# Altium schematic symbol library ADM3251EARWZ.Schlib: 1 symbol
Pins are listed as number, name and electrical type; pins without a type are passive.

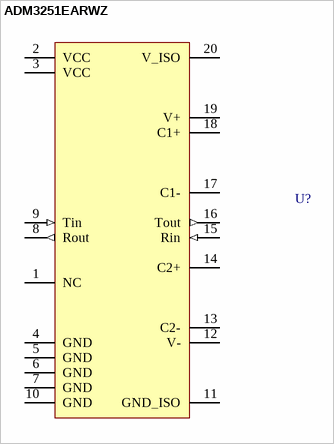
[diagram p0: symbol ADM3251EARWZ]

## ADM3251EARWZ
designator U?
RS232 Digital Isolator 2500Vrms 2 Channel 460Kbps 25kV
pins: 1 NC, 2 VCC (power), 3 VCC (power), 4 GND (power), 5 GND (power), 6 GND (power), 7 GND (power), 8 Rout (out), 9 Tin (in), 10 GND (power), 11 GND_ISO (power), 12 V-, 13 C2-, 14 C2+, 15 Rin (in), 16 Tout (out), 17 C1-, 18 C1+, 19 V+, 20 V_ISO (power)